# Altium footprint library FishWand_pcbLib.PcbLib: 35 footprints (part 2 of 3)
Each footprint in its own frame and in the unit in brackets; x right, y up, seen from the top. Pads: shape width x height; smd on the part's side, far side on the other; paste and mask are expansions set on the pad; w line width, h text height; cw(c..) or ccw(c..) is an arc to the next point about the centre after c.
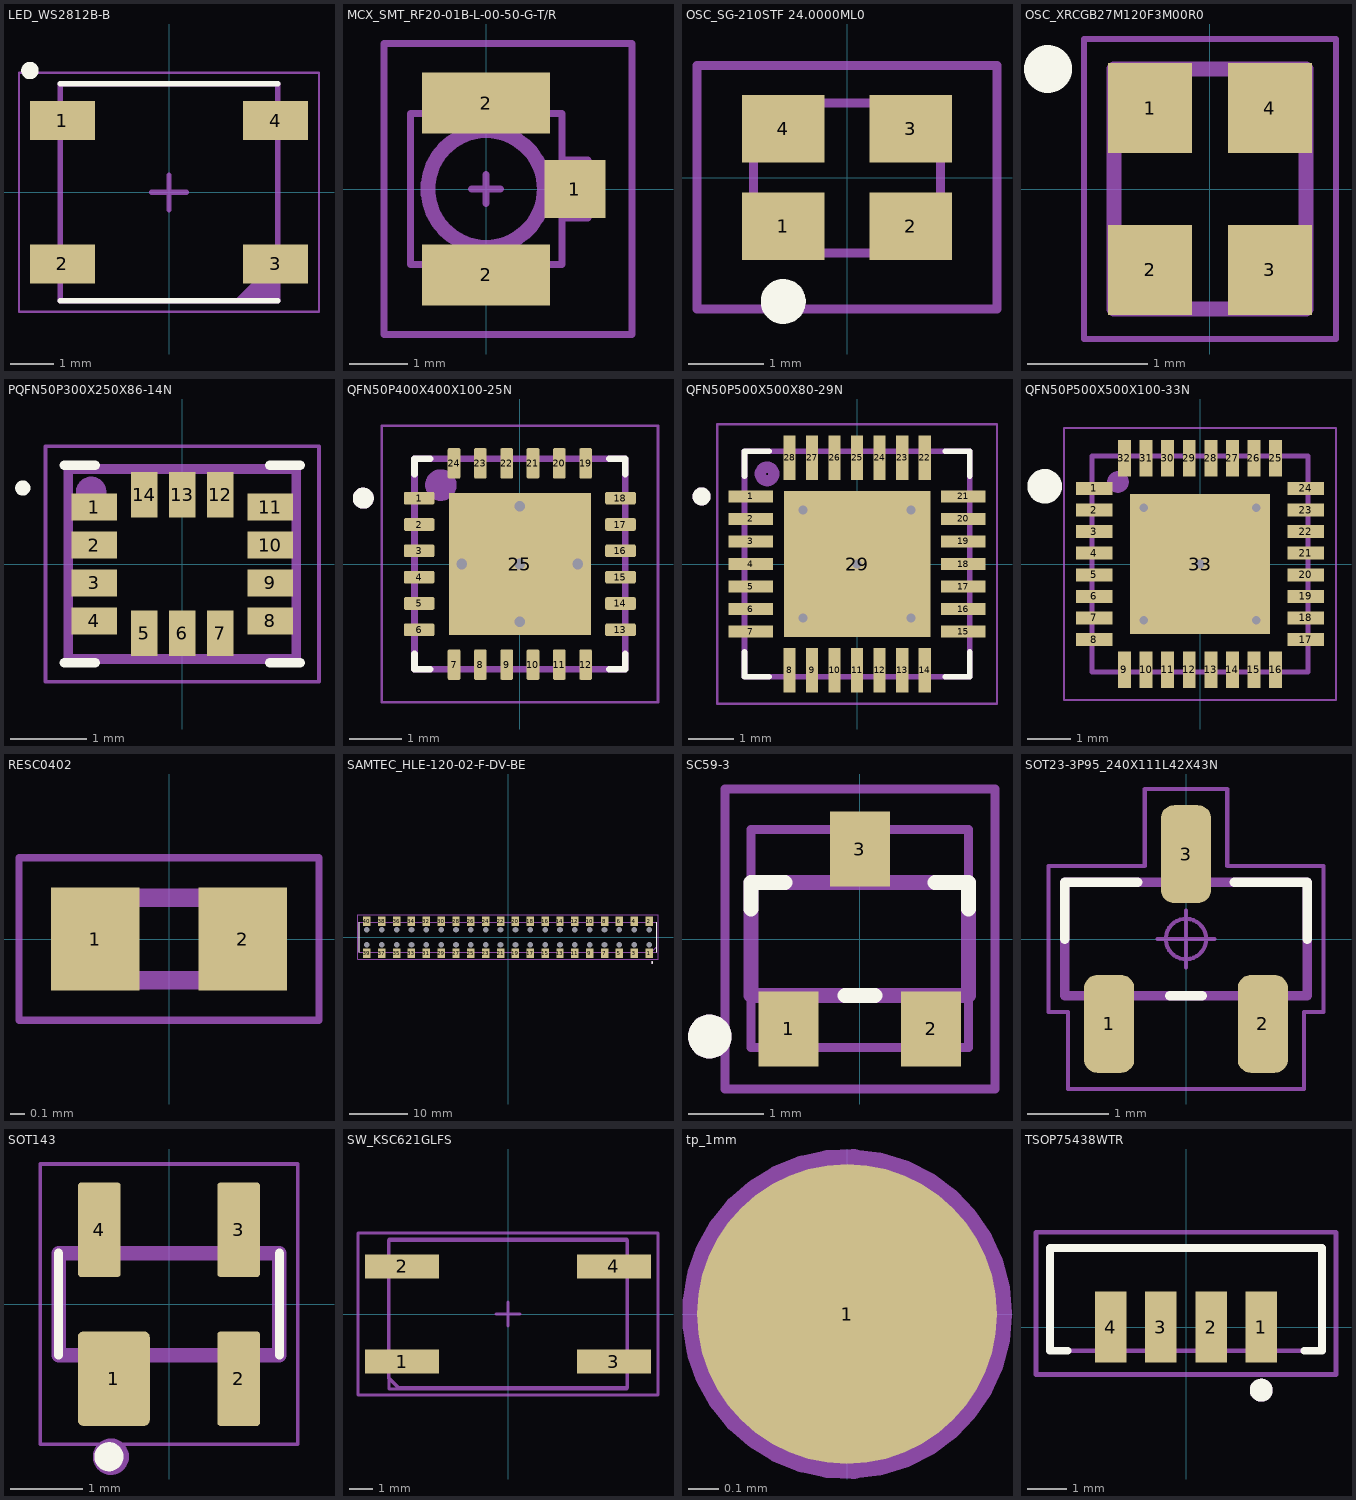
[diagram p1: the footprints below, top view; thin cyan lines are the x and y axes]

## LED_WS2812B-B [mm]
pads (4):
  rect 1.5x0.9 smd: 1(-2.45,1.65) 2(-2.45,-1.65) 3(2.45,-1.65) 4(2.45,1.65)
Top Overlay:
  circle w0.2: c-3.2,2.8 r0.1
  lines w0.127: -2.5,-2.5 2.5,-2.5 ; -2.5,2.5 2.5,2.5
Assembly Text Top:
  text ".designator" at -1.7,-0.4 h1.5
Assembly Top:
  region: 2.5,-2.5 1.5,-2.5 2.5,-1.5
  lines w0.12: -2.5,-2.5 2.5,-2.5 2.5,2.5 -2.5,2.5 -2.5,-2.5
  text "1" at -2.2,1.8 h0.75
3D Top:
  region: 2.5,-2.5 1.5,-2.5 2.5,-1.5
  lines w0.127: -2.5,-2.5 -2.5,2.5 2.5,2.5 2.5,-2.5 -2.5,-2.5
Courtyard Top:
  lines w0.05: -3.45,-2.75 3.45,-2.75 3.45,2.75 -3.45,2.75 -3.45,-2.75
  lines w0.12: -0.4,0 0.4,0 -0.2,0 ; 0,-0.4 0,0.4
3D body: height 1.57, standoff 0, extent -2.5,-2.5 2.5,2.5

## MCX_SMT_RF20-01B-L-00-50-G-T/R [mm]
pads (3):
  rect 1.05x1 smd: 1(1.525,0)
  rect 2.2x1.05 smd: 2(0,-1.475) 2(0,1.475)
Assembly Text Top:
  text ".Designator" at -1.2,-0.4 h1
Assembly Top:
  lines w0.12: -1,-1.3 -1,-1.55 -1,-1.75 1,-1.75 1,-1.3 ; -1,1.3 -1,1.75 1,1.75 1,1.3 ; 1.3,-0.5 1.75,-0.5 1.75,0.5 1.3,0.5 ; -1.3,-1.3 -1.3,1.3 1.3,1.3 1.3,-1.3 -1.3,-1.3
3D Top:
  circle w0.254: c0,0 r1
  lines w0.12: -1.3,-1.3 1.3,-1.3 1.3,1.3 -1.3,1.3 -1.3,-1.3
Courtyard Top:
  lines w0.12: -0.25,0 0.25,0 ; 0,-0.25 0,0.25 ; -1.75,-2.5 -1.75,2.5 2.5,2.5 2.5,-2.5 -1.75,-2.5
3D body: height 0.35, standoff 0, extent -1.3,-1.3 1.3,1.3
3D body: height 1.25, standoff 0, extent -0.992,-0.998 1,0.998

## OSC_SG-210STF 24.0000ML0 [mm]
pads (4):
  rect 1.1x0.9 smd: 1(-0.85,-0.65) 2(0.85,-0.65) 3(0.85,0.65) 4(-0.85,0.65)
Top Overlay:
  circle w0.3: c-0.85,-1.65 r0.15
Assembly Text Top:
  text ".designator" at -0.5,-0.25 h1
Assembly Top:
  circle w0.3: c-0.75,-0.5 r0.15
  lines w0.12: -1.25,-1 -1.25,1 1.25,1 1.25,-1 -1.25,-1
3D Top:
  lines w0.12: -1.25,-1 1.25,-1 1.25,1 -1.25,1 -1.25,-1
Courtyard Top:
  lines w0.12: -2,-1.75 -2,1.5 2,1.5 2,-1.75 -2,-1.75
3D body: height 0.8, standoff 0.1, extent -1.25,-1 1.25,1

## OSC_XRCGB27M120F3M00R0 [mm]
pads (4):
  rect 0.7x0.75 smd: 1(-0.5,0.675) 2(-0.5,-0.675) 3(0.5,-0.675) 4(0.5,0.675)
Top Overlay:
  circle w0.2: c-1.35,1 r0.1
Assembly Text Top:
  text ".Designator" at 0,0 h1
Assembly Top:
  circle w0.2: c-0.5,0.7 r0.1
  lines w0.127: -0.8,-1 0.8,-1 0.8,1 -0.8,1 -0.8,-1
3D Top:
  lines w0.127: -0.8,-1 -0.8,1 0.8,1 0.8,-1 -0.8,-1
Courtyard Top:
  lines w0.05: -1.05,-1.25 -1.05,1.25 1.05,1.25 1.05,-1.25 -1.05,-1.25
3D body: height 0.7, standoff 0, extent -0.8,-1 0.8,1

## PQFN50P300X250X86-14N [mm]
pads (14):
  rect 0.6x0.35 smd: 1(-1.16,0.75) 2(-1.16,0.25) 3(-1.16,-0.25) 4(-1.16,-0.75) 8(1.16,-0.75) 9(1.16,-0.25) 10(1.16,0.25) 11(1.16,0.75)
  rect 0.35x0.6 smd: 5(-0.5,-0.91) 6(0,-0.91) 7(0.5,-0.91) 12(0.5,0.91) 13(0,0.91) 14(-0.5,0.91)
Top Overlay:
  circle w0.1: c-2.1,1 r0.05
  lines w0.127: -1.55,-1.3 -1.15,-1.3 ; -1.55,1.3 -1.15,1.3 ; 1.15,-1.3 1.55,-1.3 ; 1.15,1.3 1.55,1.3
Assembly Text Top:
  text ".Designator" at -1,-0.6 h1
Assembly Top:
  circle w0.2: c-1.2,0.95 r0.1
  lines w0.127: -1.5,-1.25 1.5,-1.25 1.5,1.25 -1.5,1.25 -1.5,-1.25
3D Top:
  lines w0.127: -1.5,-1.25 -1.5,1.25 1.5,1.25 1.5,-1.25 -1.5,-1.25
Courtyard Top:
  lines w0.05: -1.8,-1.55 1.8,-1.55 1.8,1.55 -1.8,1.55 -1.8,-1.55
3D body: height 0.85, standoff 0, extent -1.5,-1.25 1.5,1.25
3D body: height 0.86, standoff 0, extent -1.099,0.7 -0.9,0.9

## QFN50P400X400X100-25N [mm]
pads (25):
  rrect25% 0.58x0.24 smd: 1(-1.913,1.25) 2(-1.913,0.75) 3(-1.913,0.25) 4(-1.913,-0.25) 5(-1.913,-0.75) 6(-1.913,-1.25) 13(1.913,-1.25) 14(1.913,-0.75) 15(1.913,-0.25) 16(1.913,0.25) 17(1.913,0.75) 18(1.913,1.25)
  rrect25% 0.24x0.58 smd: 7(-1.25,-1.913) 8(-0.75,-1.913) 9(-0.25,-1.913) 10(0.25,-1.913) 11(0.75,-1.913) 12(1.25,-1.913) 19(1.25,1.913) 20(0.75,1.913) 21(0.25,1.913) 22(-0.25,1.913) 23(-0.75,1.913) 24(-1.25,1.913)
  rect 2.7x2.7 smd paste-2: 25(0,0)
via 0,1.1 diameter 0.5 hole 0.2
via 0,0 diameter 0.5 hole 0.2
via -1.1,0 diameter 0.5 hole 0.2
via 1.1,0 diameter 0.5 hole 0.2
via 0,-1.1 diameter 0.5 hole 0.2
Top Overlay:
  circle w0.2: c-2.975,1.25 r0.1
  lines w0.127: -2,-1.705 -2,-2 -1.705,-2 ; -2,1.705 -2,2 -1.705,2 ; 1.705,-2 2,-2 2,-1.705 ; 1.705,2 2,2 2,1.705
Top Paste:
  region: -0.1,-1.18 -1.18,-1.18 -1.18,-0.1 -0.1,-0.1
  region: 1.18,0.1 0.1,0.1 0.1,1.18 1.18,1.18
  region: -0.1,0.1 -1.18,0.1 -1.18,1.18 -0.1,1.18
  region: 1.18,-1.18 0.1,-1.18 0.1,-0.1 1.18,-0.1
Assembly Text Top:
  text ".Designator" at -1.2,-0.3 h1.25
Assembly Top:
  circle w0.3: c-1.5,1.5 r0.15
  lines w0.127: -2,-2 2,-2 2,2 -2,2 -2,-2
3D Top:
  circle w0.2: c-2.975,1.25 r0.1
  lines w0.127: -2,-2 -2,2 2,2 2,-2 -2,-2
Courtyard Top:
  lines w0.05: -2.625,-2.625 -2.625,2.625 2.625,2.625 2.625,-2.625 -2.625,-2.625
3D body: height 0.85, standoff 0, extent -1.599,1.4 -1.4,1.6
3D body: height 0.85, standoff 0, extent -2,-2 2,2

## QFN50P500X500X80-29N [mm]
pads (29):
  rect 0.99x0.27 smd: 1(-2.36,1.5) 2(-2.36,1) 3(-2.36,0.5) 4(-2.36,0) 5(-2.36,-0.5) 6(-2.36,-1) 7(-2.36,-1.5) 15(2.36,-1.5) 16(2.36,-1) 17(2.36,-0.5) 18(2.36,0) 19(2.36,0.5) 20(2.36,1) 21(2.36,1.5)
  rect 0.27x0.99 smd: 8(-1.5,-2.36) 9(-1,-2.36) 10(-0.5,-2.36) 11(0,-2.36) 12(0.5,-2.36) 13(1,-2.36) 14(1.5,-2.36) 22(1.5,2.36) 23(1,2.36) 24(0.5,2.36) 25(0,2.36) 26(-0.5,2.36) 27(-1,2.36) 28(-1.5,2.36)
  rect 3.25x3.25 smd paste-0.597: 29(0,0)
via -1.2,1.2 diameter 0.5 hole 0.2
via 1.2,1.2 diameter 0.5 hole 0.2
via 1.2,-1.2 diameter 0.5 hole 0.2
via -1.2,-1.2 diameter 0.5 hole 0.2
via 0,0 diameter 0.5 hole 0.2
Top Overlay:
  circle w0.2: c-3.455,1.5 r0.1
  lines w0.127: -2.5,-1.955 -2.5,-2.5 -1.955,-2.5 ; -2.5,1.955 -2.5,2.5 -1.955,2.5 ; 1.955,-2.5 2.5,-2.5 2.5,-1.955 ; 1.955,2.5 2.5,2.5 2.5,1.955
Assembly Text Top:
  text ".Designator" at -1,-0.3 h1.25
Assembly Top:
  circle w0.25: c-2,2 r0.15
  lines w0.127: -2.5,-2.5 2.5,-2.5 2.5,2.5 -2.5,2.5 -2.5,-2.5
3D Top:
  circle w0.2: c-3.455,1.5 r0.1
  lines w0.127: -2.5,-2.5 -2.5,2.5 2.5,2.5 2.5,-2.5 -2.5,-2.5
Courtyard Top:
  lines w0.05: -3.105,-3.105 3.105,-3.105 3.105,3.105 -3.105,3.105 -3.105,-3.105
3D body: height 0.38, standoff -0.43, extent -2.5,-2.5 2.5,2.5

## QFN50P500X500X100-33N [mm]
pads (33):
  rect 0.85x0.3 smd paste+0: 1(-2.45,1.75) 2(-2.45,1.25) 3(-2.45,0.75) 4(-2.45,0.25) 5(-2.45,-0.25) 6(-2.45,-0.75) 7(-2.45,-1.25) 8(-2.45,-1.75) 17(2.45,-1.75) 18(2.45,-1.25) 19(2.45,-0.75) 20(2.45,-0.25) 21(2.45,0.25) 22(2.45,0.75) 23(2.45,1.25) 24(2.45,1.75)
  rect 0.3x0.85 smd paste+0: 9(-1.75,-2.45) 10(-1.25,-2.45) 11(-0.75,-2.45) 12(-0.25,-2.45) 13(0.25,-2.45) 14(0.75,-2.45) 15(1.25,-2.45) 16(1.75,-2.45) 25(1.75,2.45) 26(1.25,2.45) 27(0.75,2.45) 28(0.25,2.45) 29(-0.25,2.45) 30(-0.75,2.45) 31(-1.25,2.45) 32(-1.75,2.45)
  rect 3.25x3.25 smd paste+0: 33(0,0)
via -1.3,1.3 diameter 0.5 hole 0.2
via 1.3,1.3 diameter 0.5 hole 0.2
via 1.3,-1.3 diameter 0.5 hole 0.2
via -1.3,-1.3 diameter 0.5 hole 0.2
via 0,0 diameter 0.5 hole 0.2
Top Overlay:
  circle w0.4: c-3.6,1.8 r0.2
Top Paste:
  region: 1.027,-1.029 -1.029,-1.029 -1.029,1.027 1.027,1.027
Assembly Text Top:
  text ".Designator" at -1.4,-0.2 h1.25
Assembly Top:
  circle w0.3: c-1.9,1.9 r0.1
  lines w0.12: -2.5,-2.5 -2.5,2.5 2.5,2.5 2.5,-2.5 -2.5,-2.5
3D Top:
  lines w0.12: -2.5,-2.5 2.5,-2.5 2.5,2.5 -2.5,2.5 -2.5,-2.5
Courtyard Top:
  lines w0.05: -3.15,-3.15 -3.15,3.15 3.15,3.15 3.15,-3.15 -3.15,-3.15
3D body: height 0.85, standoff 0, extent -2.5,-2.5 2.5,2.5

## RESC0402 [mm]
pads (2):
  rect 0.6x0.7 smd: 1(-0.5,0) 2(0.5,0)
Assembly Text Top:
  text ".Designator" at -0.8,-0.3 h1
Assembly Top:
  lines w0.05: -1.016,-0.55 1.016,-0.55 1.016,0.55 -1.016,0.55 -1.016,-0.55
3D Top:
  lines w0.127: -0.55,-0.28 -0.55,0.28 0.55,0.28 0.55,-0.28 -0.55,-0.28
Courtyard Top:
  lines w0.05: -1.016,-0.55 -1.016,0.55 1.016,0.55 1.016,-0.55 -1.016,-0.55
3D body: height 0.35, standoff 0, extent -0.5,-0.25 -0.3,0.25
3D body: height 0.35, standoff 0, extent 0.3,-0.25 0.5,0.25
3D body: height 0.35, standoff 0, extent -0.3,-0.25 0.3,0.25

## SAMTEC_HLE-120-02-F-DV-BE [mm]
pads (80):
  rect 1.27x1.6 smd: 1(24.13,-2.72) 2(24.13,2.72) 3(21.59,-2.72) 4(21.59,2.72) 5(19.05,-2.72) 6(19.05,2.72) 7(16.51,-2.72) 8(16.51,2.72) 9(13.97,-2.72) 10(13.97,2.72) 11(11.43,-2.72) 12(11.43,2.72) 13(8.89,-2.72) 14(8.89,2.72) 15(6.35,-2.72) 16(6.35,2.72) 17(3.81,-2.72) 18(3.81,2.72) 19(1.27,-2.72) 20(1.27,2.72) 21(-1.27,-2.72) 22(-1.27,2.72) 23(-3.81,-2.72) 24(-3.81,2.72) 25(-6.35,-2.72) 26(-6.35,2.72) 27(-8.89,-2.72) 28(-8.89,2.72) 29(-11.43,-2.72) 30(-11.43,2.72) 31(-13.97,-2.72) 32(-13.97,2.72) 33(-16.51,-2.72) 34(-16.51,2.72) 35(-19.05,-2.72) 36(-19.05,2.72) 37(-21.59,-2.72) 38(-21.59,2.72) 39(-24.13,-2.72) 40(-24.13,2.72)
  round 0 hole 0.97 unplated: ""(-24.13,-1.27) ""(-24.13,1.27) ""(-21.59,-1.27) ""(-21.59,1.27) ""(-19.05,-1.27) ""(-19.05,1.27) ""(-16.51,-1.27) ""(-16.51,1.27) ""(-13.97,-1.27) ""(-13.97,1.27) ""(-11.43,-1.27) ""(-11.43,1.27) ""(-8.89,-1.27) ""(-8.89,1.27) ""(-6.35,-1.27) ""(-6.35,1.27) ""(-3.81,-1.27) ""(-3.81,1.27) ""(-1.27,-1.27) ""(-1.27,1.27) ""(1.27,-1.27) ""(1.27,1.27) ""(3.81,-1.27) ""(3.81,1.27) ""(6.35,-1.27) ""(6.35,1.27) ""(8.89,-1.27) ""(8.89,1.27) ""(11.43,-1.27) ""(11.43,1.27) ""(13.97,-1.27) ""(13.97,1.27) ""(16.51,-1.27) ""(16.51,1.27) ""(19.05,-1.27) ""(19.05,1.27) ""(21.59,-1.27) ""(21.59,1.27) ""(24.13,-1.27) ""(24.13,1.27)
Top Overlay:
  circle w0.2: c24.64,-4.32 r0.1
  lines w0.2: -25.4,-2.54 -25.4,2.54 ; 25.4,-2.54 25.4,2.54
Assembly Text Top:
  text ".designator" at 0,-0.1 h0.75
Assembly Top:
  lines w0.12: -25.4,-2.54 24.46,-2.54 25.4,-1.6 25.4,2.54 -25.4,2.54 -25.4,-2.54
3D Top:
  circle w0.2: c24.64,-4.32 r0.1
  lines w0.1: -25.4,-2.54 25.4,-2.54 25.4,2.54 -25.4,2.54 -25.4,-2.54
Courtyard Top:
  lines w0.05: -25.65,-3.81 25.65,-3.81 25.65,3.81 -25.65,3.81 -25.65,-3.81
3D body: height 3.69, standoff 0.03, extent -25.4,-3.289 25.4,3.289

## SC59-3 [mm]
height 1.4
pads (3):
  rect 0.8x1 smd: 1(-0.95,-1.2) 2(0.95,-1.2) 3(0,1.2)
Top Overlay:
  circle w0.3: c-2,-1.3 r0.141
  lines w0.2: -1.45,0.4 -1.45,0.75 -1,0.75 ; -0.2,-0.75 0.2,-0.75 ; 1,0.75 1.45,0.75 1.45,0.4
Assembly Text Top:
  text ".designator" at -0.8,-0.2 h1
Assembly Top:
  circle w0.3: c-2,-1.3 r0.141
  lines w0.2: -1.45,-0.75 -1.45,0.75 1.45,0.75 1.45,-0.75 -1.45,-0.75
3D Top:
  lines w0.12: -1.45,-1.445 -1.45,1.457 1.45,1.457 1.45,-1.445 -1.45,-1.445
Courtyard Top:
  lines w0.12: -1.8,-2 -1.8,2 1.8,2 1.8,-2 -1.8,-2
3D body: height 1.32, standoff -0.21, extent -1.45,-1.445 1.45,1.457

## SOT23-3P95_240X111L42X43N [mm] "Small Outline Transistor (SOT23), 0.95 mm pitch; 3 pin, 2.90 mm L X 1.30 mm W X 1.11 mm H body"
height 1.11
pads (3):
  rrect52% 0.62x1.21 smd: 1(-0.95,-1.05) 2(0.95,-1.05) 3(0,1.05)
Top Overlay:
  lines w0.12: -1.5,0 -1.5,0.7 -0.6,0.7 ; -0.2,-0.7 0.2,-0.7 ; 0.6,0.7 1.5,0.7 1.5,0
Assembly Text Top:
  text ".Designator" at -1.3,-0.2 h1.25
Assembly Top:
  lines w0.05: -1.7,-0.9 -1.46,-0.9 -1.46,-1.855 1.46,-1.855 1.46,-0.9 1.7,-0.9 1.7,0.9 0.51,0.9 0.51,1.855 -0.51,1.855 -0.51,0.9 -1.7,0.9 -1.7,-0.9
3D Top:
  lines w0.12: -1.5,-0.7 -1.5,0.7 1.5,0.7 1.5,-0.7 -1.5,-0.7
Courtyard Top:
  circle w0.05: c0,0 r0.25
  lines w0.05: -0.35,0 0.35,0 ; 0,-0.35 0,0.35 ; -1.7,-0.9 -1.7,0.9 -0.51,0.9 -0.51,1.855 0.51,1.855 0.51,0.9 1.7,0.9 1.7,-0.9 1.46,-0.9 1.46,-1.855 -1.46,-1.855 -1.46,-0.9 -1.7,-0.9
3D body: height 1.11, standoff 0, extent -1.5,-1.35 1.5,1.35

## SOT143 [mm]
pads (4):
  rrect15% 0.99x1.3 smd: 1(-0.76,-1.025)
  rrect15% 0.59x1.3 smd: 2(0.96,-1.025) 3(0.96,1.025) 4(-0.96,1.025)
Top Overlay:
  circle w0.2: c-0.827,-2.1 r0.1
  lines w0.127: -1.52,-0.7 -1.52,0.7 ; 1.52,-0.7 1.52,0.7
Assembly Text Top:
  text ".Designator" at -1,-0.3 h1
Assembly Top:
  circle w0.3: c-0.8,-2.1 r0.1
  lines w0.2: -1.52,-0.7 -1.52,0.7 1.52,0.7 1.52,-0.7 -1.52,-0.7
3D Top:
  lines w0.127: -1.52,-0.7 -1.52,0.7 1.52,0.7 1.52,-0.7 -1.52,-0.7
Courtyard Top:
  lines w0.05: -1.77,-1.93 -1.77,1.93 1.77,1.93 1.77,-1.93 -1.77,-1.93
3D body: height 1.25, standoff 0.03, extent -1.46,-1.17 1.46,1.2

## SW_KSC621GLFS [mm] "SWITCH TACTILE SPST-NO 0.05A 32V"
pads (4):
  rect 3.1x1 smd: 1(-4.45,-2) 2(-4.45,2) 3(4.45,-2) 4(4.45,2)
Assembly Text Top:
  text ".designator" at -1.9,-0.4 h1.25
Assembly Top:
  lines w0.15: -5,-2.7 -5,3.1 5,3.1 5,-3.1 -4.6,-3.1 -5,-2.7
3D Top:
  lines w0.12: -5.002,-3.15 5.001,-3.15 5.001,3.15 -5.002,3.15 -5.002,-3.15
Courtyard Top:
  lines w0.12: -0.5,0 0.5,0 ; 0,-0.5 0,0.5 ; -6.3,-3.4 2.9,-3.4 6.1,-3.4 6.3,-3.4 6.3,-3.2 6.3,3.4 5.3,3.4 -2.3,3.4 -6.3,3.4 -6.3,3.2 -6.3,-2.5 -6.3,-3.4
3D body: height 7.58, standoff -0.08, extent -5.002,-3.15 5.001,3.15

## tp_1mm [mm]
pads (1):
  round 1 smd paste-5 mask+0.1: 1(0,0)
Assembly Text Top:
  text ".designator" at -0.3,-0.2 h0.6
Assembly Top:
  circle w0.1: c0,0 r0.5

## TSOP75438WTR [mm] "TSOP75438WTR_IR_RX"
height 3
pads (4):
  rect 0.8x1.8 smd: 1(1.905,0) 2(0.635,0) 3(-0.635,0) 4(-1.905,0)
Top Overlay:
  circle w0.3: c1.905,-1.6 r0.14
  lines w0.2: -3,-0.6 -3.45,-0.6 -3.45,2 3.45,2 3.45,-0.6 3.4,-0.6 3,-0.6
Assembly Text Top:
  text ".designator" at -1.695,1.2 h1.2
Assembly Top:
  circle w0.3: c1.905,-1.6 r0.14
  lines w0.12: 3.4,-0.6 3.447,2 -3.45,2 -3.45,-0.6 3.45,-0.6
Courtyard Top:
  lines w0.12: -3.8,-1.2 -3.8,2.4 3.8,2.4 3.8,-1.2 -3.8,-1.2
3D body: height 3.13, standoff 0.03, extent -3.45,-0.55 3.45,1.95